# Altium footprint library MPT-02-6.30-01-x-V.PcbLib: 1 footprints
Each footprint in its own frame and in the unit in brackets; x right, y up, seen from the top. Pads: shape width x height; smd on the part's side, far side on the other; paste and mask are expansions set on the pad; w line width, h text height; cw(c..) or ccw(c..) is an arc to the next point about the centre after c.
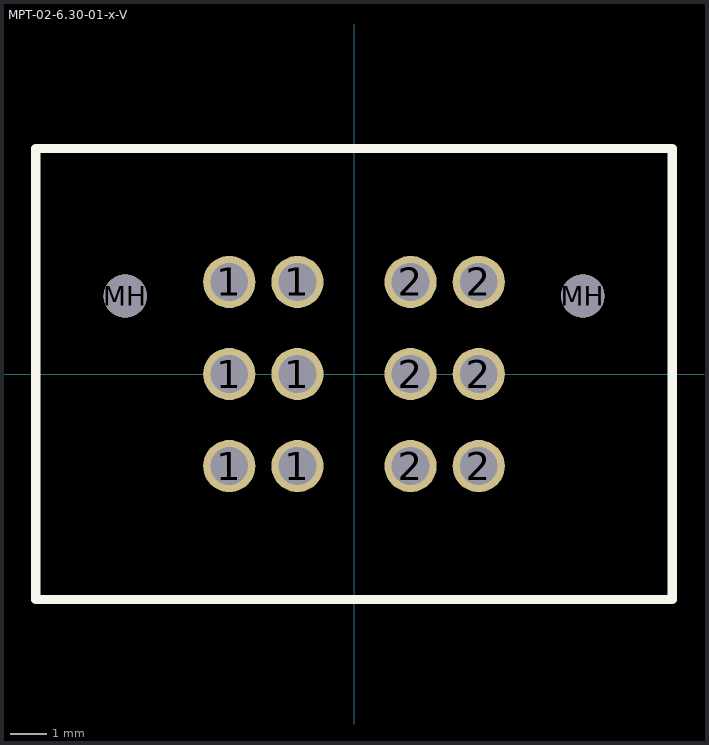
[diagram p0: the footprint, top view; thin cyan lines are the x and y axes]

## MPT-02-6.30-01-x-V [mm]
pads (14):
  round 1.44 hole 1.04: 1(-3.44,-2.54) 1(-3.44,0) 1(-3.44,2.54) 1(-1.56,-2.54) 1(-1.56,0) 1(-1.56,2.54) 2(1.56,-2.54) 2(1.56,0) 2(1.56,2.54) 2(3.44,-2.54) 2(3.44,0) 2(3.44,2.54)
  round 1.19 hole 1.19 unplated: MH(-6.31,2.15) MH(6.31,2.15)
Top Overlay:
  lines w0.254: -8.775,-6.22 8.775,-6.22 8.775,6.22 -8.775,6.22 -8.775,-6.22
3D body: height 11.01, standoff -3.08, extent -9.774,-6.223 9.774,6.223